# Altium schematic symbol library Chess Clock Component.SchLib: 5 symbols
Pins are listed as number, name and electrical type; pins without a type are passive.

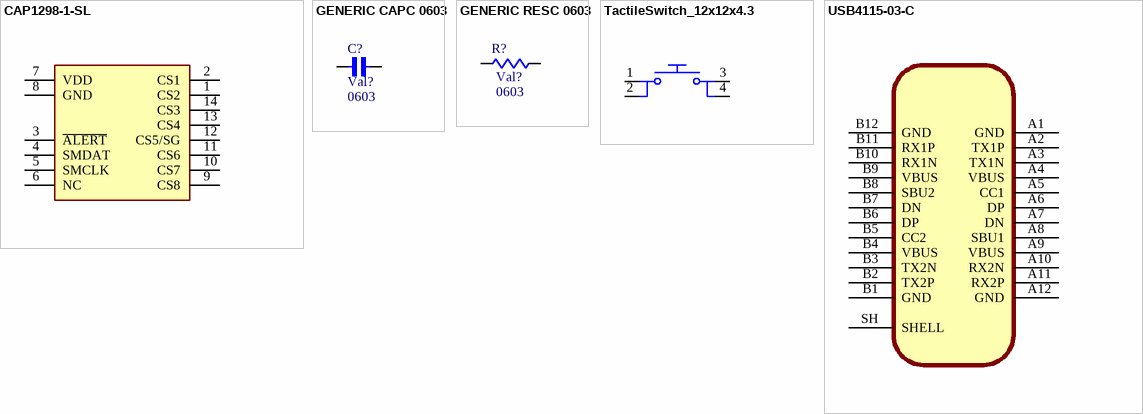
[diagram p0: symbols CAP1298-1-SL to USB4115-03-C]

## CAP1298-1-SL
designator U?
8-CHANNEL CAPACITIVE TOUCH SENSO; Manufacturer: Microchip Technology; Categories: Interface ICs; Manufacturer Part Number: CAP1298-1-SL; Package: 14-SOIC; Supplier 1: Digi-Key; Supplier Part Number 1: CAP1298-1-SL-ND; Supplier 2: LCSC; Supplier Part Number 2: C1522287; Note: *
footprint CAP1298-1-SL (SOIC, 14-Leads, Body 8.65x3.90mm, Pitch 1.27mm, IPC Medium Density)
pins: 1 CS2, 2 CS1, 3 ~{ALERT}, 4 SMDAT, 5 SMCLK, 6 NC, 7 VDD, 8 GND, 9 CS8, 10 CS7, 11 CS6, 12 CS5/SG, 13 CS4, 14 CS3

## GENERIC CAPC 0603
designator C?, comment Package: 0603  (hidden comment: Val?)
GENERIC CAPC 0603; Categories: Ceramic Capacitors; Manufacturer: -; Manufacturer Part Number: -; Temperature Coefficient: -; Tolerance: -; Supplier 1: Digi-Key; Supplier Part Number 1: -; Supplier 2: LCSC; Supplier Part Number 2: -; Voltage - Rated: -; Capacitance: Val?
footprint CAPC0603X08N (Chip Capacitor, 2-Leads, Body 1.60x0.80mm, IPC Medium Density)
pins: 1, 2

## GENERIC RESC 0603
designator R?, comment Package: 0603  (hidden comment: Val?)
GENERIC RESC 0603; Categories: Resistors; Manufacturer: -; Manufacturer Part Number: -; Supplier 1: Digi-Key; Supplier Part Number 1: -; Temperature Coefficient: -; Tolerance: -; Power (Watts): -; Resistance: Val?
footprint RESC0603X04N (Chip Resistor, 2-Leads, Body 1.60x0.80mm, IPC Medium Density)
pins: 1, 2

## TactileSwitch_12x12x4.3
designator SW?, comment 12mm x 12mm x 4.3mm
SWITCH TACTILE SPST-NO 0.05A 12V; Manufacturer: XUNPU; Manufacturer Part Number: UK-B0262-G4.3-160; Categories: Tactile Switches; Package: SMD 12x12; Supplier 1: -; Supplier Part Number 1: -; Supplier 2: -; Supplier Part Number 2: -; Note: -
footprint TACTILE_SWITCH_12x12x4.3 (TACTILES WITCH 12x12x4.3mm)
pins: 1, 2, 3, 4

## USB4115-03-C
designator CN?
CONN USB3.1 TYPE-C VERT SOCKET; Manufacturer: GCT; Categories: USB Connectors; Manufacturer Part Number: USB4115-03-C; Package: SMD, TH; Supplier 1: Digi-Key; Supplier Part Number 1: 2073-USB4115-03-CCT-ND; Supplier 2: -; Supplier Part Number 2: -; Note: -
footprint USB4115-03-C (CONN USB3.1 TYPE-C VERT SOCKET)
pins: A1 GND, A2 TX1P, A3 TX1N, A4 VBUS, A5 CC1, A6 DP, A7 DN, A8 SBU1, A9 VBUS, A10 RX2N, A11 RX2P, A12 GND, B1 GND, B2 TX2P, B3 TX2N, B4 VBUS, B5 CC2, B6 DP, B7 DN, B8 SBU2, B9 VBUS, B10 RX1N, B11 RX1P, B12 GND, SH SHELL